# Altium integrated library FS8205.IntLib: 1 symbol
Pins are listed as number, name and electrical type; pins without a type are passive.

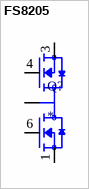
[diagram p0: symbol FS8205]

## FS8205
designator Q?
МОП-транзистор с двойным N-канальным режимом усиления мощности; MF: Fortune Semiconductor; MP: FS8205
footprint SOT95P280X145-6N
pins: 1 S1, 2 D12, 3 S2, 4 G2, 5 D12, 6 G1